# Altium schematic symbol library PI4ULS5V108.SchLib: 1 symbol
Pins are listed as number, name and electrical type; pins without a type are passive.

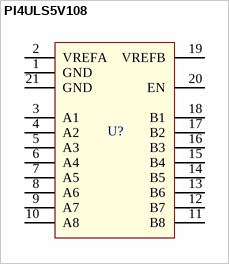
[diagram p0: symbol PI4ULS5V108]

## PI4ULS5V108
designator U?
8-Bit Bi-directional Level Shifter for Open-Drain and Push-Pull Application
footprint VQFN-20
pins: 1 GND, 2 VREFA, 3 A1, 4 A2, 5 A3, 6 A4, 7 A5, 8 A6, 9 A7, 10 A8, 11 B8, 12 B7, 13 B6, 14 B5, 15 B4, 16 B3, 17 B2, 18 B1, 19 VREFB, 20 EN, 21 GND